# Altium footprint library WL-SDSB.PcbLib: 2 footprints
Each footprint in its own frame and in the unit in brackets; x right, y up, seen from the top. Pads: shape width x height; smd on the part's side, far side on the other; paste and mask are expansions set on the pad; w line width, h text height; cw(c..) or ccw(c..) is an arc to the next point about the centre after c.
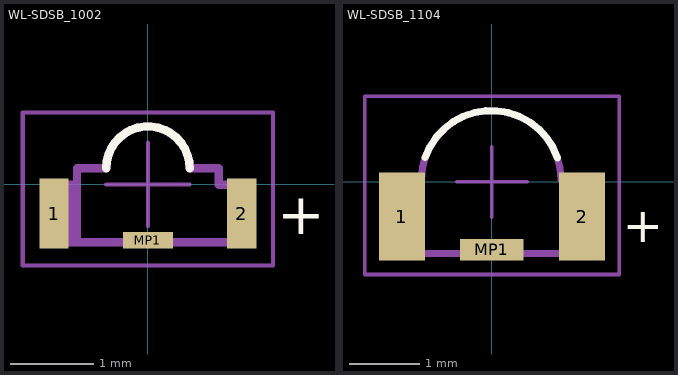
[diagram p0: the footprints below, top view; thin cyan lines are the x and y axes]

## WL-SDSB_1002 [mm] "SMT Photodiode Sideview Black, body 2.4x1.39mm"
height 0.6
pads (3):
  rect 0.35x0.84 smd: 1(-1.125,-0.35) 2(1.125,-0.35)
  rect 0.6x0.2 smd: MP1(0,-0.67)
Top Overlay:
  lines w0.1: -0.5,0.195 cw(c0,0.195) 0.5,0.195
  text "+" at 1.55,-0.6 h0.5
Top Designator:
  text ".Designator" at -2.499,-0.167 h0.5
Top Component Outline:
  rectangle: -1.2,-0.695 -0.8,-0.005
  lines w0.1: -1.2,-0.695 1.2,-0.695 1.2,-0.005 0.85,-0.005 0.85,0.195 0.5,0.195 ccw(c0,0.195) -0.5,0.195 -0.85,0.195 -0.85,-0.005 -1.2,-0.005 -1.2,-0.695
Top 3D Body:
  rectangle: -1.2,-0.695 -0.8,-0.005
  lines w0.1: -1.2,-0.695 -1.2,-0.005 -0.85,-0.005 -0.85,0.195 -0.5,0.195 cw(c0,0.195) 0.5,0.195 0.85,0.195 0.85,-0.005 1.2,-0.005 1.2,-0.695 -1.2,-0.695
Top Courtyard:
  lines w0.05: -0.5,0 0.5,0 ; 0,-0.5 0,0.5 ; -1.5,-0.97 1.5,-0.97 1.5,0.86 -1.5,0.86 -1.5,-0.97
3D body "1541021ECA170_CTM.stp": height 0.6, standoff 0, extent -1.2,-0.695 1.2,0.695

## WL-SDSB_1104 [mm] "SMT Photodiode Sideview Black, body 3x2.02mm"
height 1
pads (3):
  rect 0.65x1.24 smd: 1(-1.275,-0.49) 2(1.275,-0.49)
  rect 0.9x0.3 smd: MP1(0,-0.96)
Top Overlay:
  lines w0.1: -0.944,0.348 cw(c-0.01,0.02) 0.926,0.342
  text "+" at 1.85,-0.85 h0.5
Top Designator:
  text ".Designator" at -3.499,-0.233 h0.7
Top Component Outline:
  rectangle: -1.5,-1.01 -0.95,0.03
  lines w0.1: 1.48,0.03 0.98,0.03 ccw(c-0.01,0.02) -1,0.03 -1.5,0.03 -1.5,-1.01 1.5,-1.01 1.5,0.03
Top 3D Body:
  rectangle: -1.5,-1.01 -0.95,0.03
  lines w0.1: 1.48,0.03 0.98,0.03 ccw(c-0.01,0.02) -1,0.03 -1.5,0.03 -1.5,-1.01 1.5,-1.01 1.5,0.03
Top Courtyard:
  lines w0.05: -0.5,0 0.5,0 ; 0,-0.5 0,0.5 ; -1.8,-1.31 1.8,-1.31 1.8,1.21 -1.8,1.21 -1.8,-1.31
3D body "1541141ECA570_CTM.stp": height 1, standoff 0, extent -1.5,-1.01 1.5,1.03